# Altium schematic symbol library CURRENT_SOURCE(1-40V, Adj, ±6 ,8SOIC).SchLib: 1 symbol
Pins are listed as number, name and electrical type; pins without a type are passive.

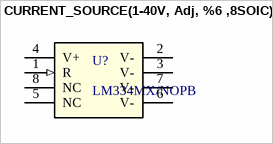
[diagram p0: symbol CURRENT_SOURCE(1-40V, Adj, %6 ,8SOIC)]

## CURRENT_SOURCE(1-40V, Adj, %6 ,8SOIC)
designator U?, comment LM334MX/NOPB
0Â°C to 70Â°C 3-pin adjustable current source 8-SOIC 0 to 70; Manufacturer_Name: Texas Instruments; Manufacturer_Part_Number: LM334MX/NOPB; Package: SOIC-8; Datasheet: https://www.ti.com/lit/ds/symlink/lm134.pdf?HQS=dis-dk-null-digikeymode-dsf-pf-null-wwe&ts=1765475385058&ref_url=https%253A%252F%252Fwww.ti.com%252Fgeneral%252Fdocs%252Fsuppproductinfo.tsp%253FdistId%253D10%2526gotoUrl%253Dhttps%253A%252F%252Fwww.ti.com%252Flit%252Fgpn%252Flm134; Digikey_Link: https://www.digikey.it/en/products/detail/texas-instruments/LM334MX-NOPB/334907
footprint D0008A_L
pins: 1 R (in), 2 V-, 3 V-, 4 V+, 5 NC, 6 V-, 7 V-, 8 NC